# Altium schematic symbol library Rele.SchLib: 1 symbol
Pins are listed as number, name and electrical type; pins without a type are passive.

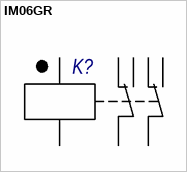
[diagram p0: symbol IM06GR]

## IM06GR
designator K?, comment Реле IM06GR фирма "TE Connectivity"  (value not drawn)
RELAY DPDT 2A 12VDC; Manufacturer: фирма "TE Connectivity"; PartNumber: IM06GR; GOST: Реле IM06GR фирма "TE Connectivity"
footprint IM Relay SMT (10x6mm H=5.65mm (Axicom))
pins: 1, 2, 3, 4, 5, 6, 7, 8
1 alternate drawing of the same symbol